# EAGLE library part ENC28J60-* (library WASP)
Microchip 10Mbit Eth. contoller with SPI interface
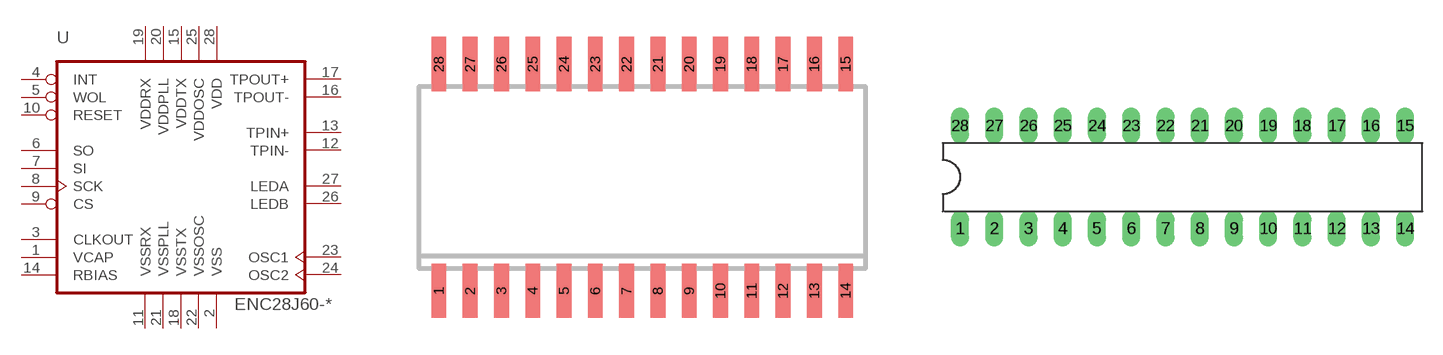
[diagram p7: symbol with the pads of SO28W; footprints SO28W, DIL28-3]

Designator prefix U

## ENC28J60-SO  [SO28W]
1  VCAP  pwr
2  VSS  pwr
3  CLKOUT  out
4  INT  out
5  WOL  out
6  SO  out
7  SI  in
8  SCK  in
9  CS  in
10  RESET  in
11  VSSRX  pwr
12  TPIN-  in
13  TPIN+  in
14  RBIAS  pas
15  VDDTX  pwr
16  TPOUT-  out
17  TPOUT+  out
18  VSSTX  pwr
19  VDDRX  pwr
20  VDDPLL  pwr
21  VSSPLL  pwr
22  VSSOSC  pwr
23  OSC1  in
24  OSC2  out
25  VDDOSC  pwr
26  LEDB  out
27  LEDA  out
28  VDD  pwr

## ENC28J60-DIL  [DIL28-3]
Pads as for SO28W

## ENC28J60-SSOP  [SSOP28]
Pads as for SO28W

## ENC28J60-  [QFN28]
1  WOL  out
2  SO  out
3  SI  in
4  SCK  in
5  CS  in
6  RESET  in
7  VSSRX  pwr
8  TPIN-  in
9  TPIN+  in
10  RBIAS  pas
11  VDDTX  pwr
12  TPOUT-  out
13  TPOUT+  out
14  VSSTX  pwr
15  VDDRX  pwr
16  VDDPLL  pwr
17  VSSPLL  pwr
18  VSSOSC  pwr
19  OSC1  in
20  OSC2  out
21  VDDOSC  pwr
22  LEDB  out
23  LEDA  out
24  VDD  pwr
25  VCAP  pwr
26  VSS  pwr
27  CLKOUT  out
28  INT  out

## Footprint SO28W (pad centres in mm)
SMALL OUTLINE INTEGRATED CIRCUIT wide body 7.5 mm/JEDEC MO-119AB
smd 0.6 x 2.2: 1 -8.255,-4.6; 2 -6.985,-4.6; 3 -5.715,-4.6; 4 -4.445,-4.6; 5 -3.175,-4.6; 6 -1.905,-4.6; 7 -0.635,-4.6; 8 0.635,-4.6; 9 1.905,-4.6; 10 3.175,-4.6; 11 4.445,-4.6; 12 5.715,-4.6; 13 6.985,-4.6; 14 8.255,-4.6; 15 8.255,4.6; 16 6.985,4.6; 17 5.715,4.6; 18 4.445,4.6; 19 3.175,4.6; 20 1.905,4.6; 21 0.635,4.6; 22 -0.635,4.6; 23 -1.905,4.6; 24 -3.175,4.6; 25 -4.445,4.6; 26 -5.715,4.6; 27 -6.985,4.6; 28 -8.255,4.6

## Footprint DIL28-3 (pad centres in mm)
Dual In Line package type P
drill 0.813 long: 1 -16.51,-3.81; 2 -13.97,-3.81; 3 -11.43,-3.81; 4 -8.89,-3.81; 5 -6.35,-3.81; 6 -3.81,-3.81; 7 -1.27,-3.81; 8 1.27,-3.81; 9 3.81,-3.81; 10 6.35,-3.81; 11 8.89,-3.81; 12 11.43,-3.81; 13 13.97,-3.81; 14 16.51,-3.81; 15 16.51,3.81; 16 13.97,3.81; 17 11.43,3.81; 18 8.89,3.81; 19 6.35,3.81; 20 3.81,3.81; 21 1.27,3.81; 22 -1.27,3.81; 23 -3.81,3.81; 24 -6.35,3.81; 25 -8.89,3.81; 26 -11.43,3.81; 27 -13.97,3.81; 28 -16.51,3.81

## Footprint SSOP28 (pad centres in mm)
Shrink Small Outline Package package type SS
smd 0.4 x 1.5: 1 -4.225,-3.625; 2 -3.575,-3.625; 3 -2.925,-3.625; 4 -2.275,-3.625; 5 -1.625,-3.625; 6 -0.975,-3.625; 7 -0.325,-3.625; 8 0.325,-3.625; 9 0.975,-3.625; 10 1.625,-3.625; 11 2.275,-3.625; 12 2.925,-3.625; 13 3.575,-3.625; 14 4.225,-3.625; 15 4.225,3.625; 16 3.575,3.625; 17 2.925,3.625; 18 2.275,3.625; 19 1.625,3.625; 20 0.975,3.625; 21 0.325,3.625; 22 -0.325,3.625; 23 -0.975,3.625; 24 -1.625,3.625; 25 -2.275,3.625; 26 -2.925,3.625; 27 -3.575,3.625; 28 -4.225,3.625

## Footprint QFN28 (pad centres in mm)
28-Lead Plastic Quad Flat No Lead Package (ML) 6x6 mm Body, Punch Singulated (QFN) Source: ww1.microchip.com/downloads/en/DeviceDoc/39605c.pdf
smd 0.8 x 0.4: 1 -2.65,1.95; 2 -2.65,1.3; 3 -2.65,0.65; 4 -2.65,0; 5 -2.65,-0.65; 6 -2.65,-1.3; 7 -2.65,-1.95; 15 2.65,-1.95; 16 2.65,-1.3; 17 2.65,-0.65; 18 2.65,0; 19 2.65,0.65; 20 2.65,1.3; 21 2.65,1.95
smd 0.4 x 0.8: 8 -1.95,-2.65; 9 -1.3,-2.65; 10 -0.65,-2.65; 11 0,-2.65; 12 0.65,-2.65; 13 1.3,-2.65; 14 1.95,-2.65; 22 1.95,2.65; 23 1.3,2.65; 24 0.65,2.65; 25 0,2.65; 26 -0.65,2.65; 27 -1.3,2.65; 28 -1.95,2.65
smd 3.55 x 3.55: M 0,0
smd 0.17 x 0.4 rotated 45: R1 -2.525,2.525
smd 0.17 x 0.4 rotated 135: R2 -2.525,-2.525
smd 0.17 x 0.4 rotated 225: R3 2.525,-2.525
smd 0.17 x 0.4 rotated 315: R4 2.5,2.5